# Altium footprint library PcbLib1.PcbLib: 19 footprints (part 1 of 2)
Each footprint in its own frame and in the unit in brackets; x right, y up, seen from the top. Pads: shape width x height; smd on the part's side, far side on the other; paste and mask are expansions set on the pad; w line width, h text height; cw(c..) or ccw(c..) is an arc to the next point about the centre after c.
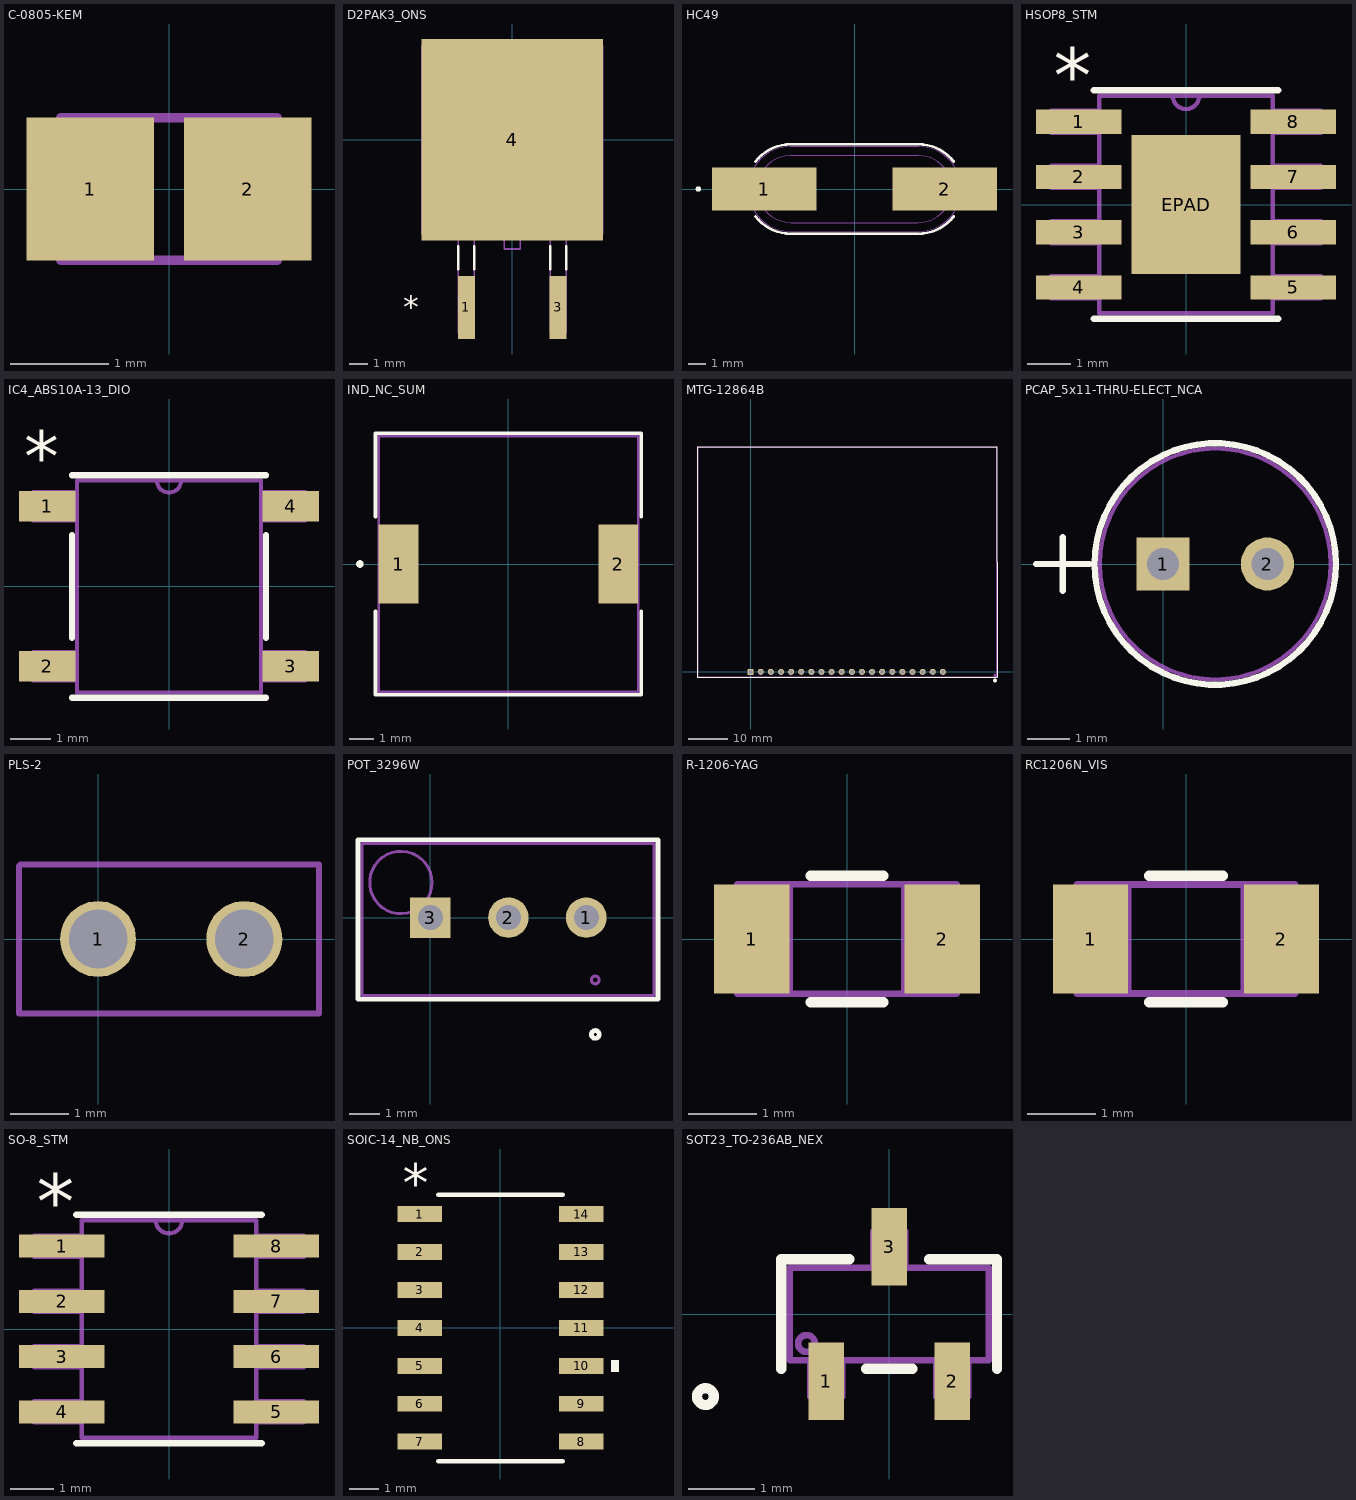
[diagram p0: the footprints below, top view; thin cyan lines are the x and y axes]

## C-0805-KEM [mm]
pads (2):
  rect 1.3x1.45 smd paste+0 mask+0: 1(-0.8,0) 2(0.8,0)
Top Assembly:
  lines w0.1: -1.1,-0.725 1.1,-0.725 ; -1.1,-0.725 -1.1,0.725 ; -1.1,-0.725 -1.1,0.725 ; -1.1,-0.725 -0.35,-0.725 -0.35,0.725 -1.1,0.725 ; -1.1,0.725 1.1,0.725 ; 1.1,-0.725 1.1,0.725 ; 1.1,-0.725 1.1,0.725 ; 1.1,-0.725 0.35,-0.725 0.35,0.725 1.1,0.725
3D body "CAPC220145_88N_KEM.step": height 0.88, standoff 0, extent -1.1,-0.725 1.1,0.725

## D2PAK3_ONS [mil]
pads (3):
  rect 36.97x137.56 smd paste+0 mask+0: 1(-100,-365) 3(100,-365)
  rect 395x438 smd paste+0 mask+0: 4(0,0)
Top Overlay:
  lines w6: -117.5,-282.22 -117.5,-232.1 ; -82.5,-282.22 -82.5,-232.1 ; 82.5,-282.22 82.5,-232.1 ; 117.5,-282.22 117.5,-232.1
  text "*" at -237.5,-390 h50
Top Assembly:
  lines w3.94: -17.5,-205 -17.5,-238 17.5,-238 17.5,-205 ; -196.5,-205 -196.5,205 196.5,205 196.5,-205 -196.5,-205 ; -117.5,-420 -82.5,-420 -82.5,-205 -117.5,-205 -117.5,-420 ; 82.5,-420 117.5,-420 117.5,-205 82.5,-205 82.5,-420
  text "*" at -112.5,-220 h50
3D body "D2PAK3_ONS.step": height 190.12, standoff -2.01, extent -197.99,-310 195,216.1

## HC49 [mm]
pads (2):
  rect 5.9x2.4 smd paste+0 mask+0: 1(-5.088,0) 2(5.088,0)
Top Overlay:
  circle w0.152: c-8.814,0 r0.076
  lines w0.152: -5.591,-1.549 ccw(c-3.594,0) -3.594,-2.527 ; -5.591,1.549 cw(c-3.594,0) -3.594,2.527 ; -3.721,-2.527 3.721,-2.527 ; -3.721,2.527 3.721,2.527 ; 3.594,-2.527 ccw(c3.594,0) 5.591,-1.549 ; 3.594,2.527 cw(c3.594,0) 5.591,1.549
Top Assembly:
  circle w0: c-7.417,0 r0.076
  lines w0: -3.594,-2.4 cw(c-3.594,0) -3.594,2.4 ; -3.594,-1.892 cw(c-3.594,0) -3.594,1.892 ; 3.594,-2.4 ccw(c3.594,0) 3.594,2.4 ; 3.594,-1.892 ccw(c3.594,0) 3.594,1.892
  lines w0.025: -3.594,-2.4 3.594,-2.4 ; -3.594,-1.892 3.594,-1.892 ; -3.594,1.892 3.594,1.892 ; -3.594,2.4 3.594,2.4
3D body "H32_RAM.step": height 3.25, standoff 0, extent -7.544,-2.4 7.544,2.4

## HSOP8_STM [mil]
pads (9):
  rect 77.56x21.97 smd paste+0 mask+0: 1(-97,75) 2(-97,25) 3(-97,-25) 4(-97,-75) 5(97,-75) 6(97,-25) 7(97,25) 8(97,75)
  rect 99x126 smd paste-62.5 mask+0: EPAD(0,0)
Top Overlay:
  lines w6: -83.5,-103.5 83.5,-103.5 ; -83.5,103.5 83.5,103.5
  text "*" at -119.5,91.97 h50
Top Paste:
  region: 45.56,-3.94 -45.56,-3.94 -45.56,-59.06 45.56,-59.06
  region: 45.56,59.06 -45.56,59.06 -45.56,3.94 45.56,3.94
Top Assembly:
  lines w3.94: -12,98.5 ccw(c0,98.5) 12,98.5 ; -122,-85 -78.5,-85 -78.5,-65 -122,-65 -122,-85 ; -122,-35 -78.5,-35 -78.5,-15 -122,-15 -122,-35 ; -122,15 -78.5,15 -78.5,35 -122,35 -122,15 ; -122,65 -78.5,65 -78.5,85 -122,85 -122,65 ; -78.5,-98.5 78.5,-98.5 78.5,98.5 -78.5,98.5 -78.5,-98.5 ; 78.5,-85 78.5,-65 122,-65 122,-85 78.5,-85 ; 78.5,-35 122,-35 122,-15 78.5,-15 78.5,-35 ; 78.5,15 122,15 122,35 78.5,35 78.5,15 ; 78.5,65 78.5,85 122,85 122,65 78.5,65
  text "*" at -76,45.5 h50
3D body "HSOP8_STM.step": height 67.09, standoff 0, extent -122,-98.5 122.01,98.51

## IC4_ABS10A-13_DIO [mm]
pads (4):
  rect 1.411x0.761 smd paste+0 mask+0: 1(-3.044,2) 2(-3.044,-2) 3(3.044,-2) 4(3.044,2)
Top Overlay:
  lines w0.152: -2.426,-2.781 2.426,-2.781 ; -2.426,-1.287 -2.426,1.287 ; -2.426,2.781 2.426,2.781 ; 2.426,-1.287 2.426,1.287
  text "*" at -3.616,2.634 h1.27
Top Assembly:
  lines w0.1: -0.305,2.654 ccw(c0,2.654) 0.305,2.654 ; -3.4,-2.356 -3.4,-1.644 -2.299,-1.644 -2.299,-2.356 -3.4,-2.356 ; -3.4,1.644 -3.4,2.356 -2.299,2.356 -2.299,1.644 -3.4,1.644 ; -2.299,-2.654 2.299,-2.654 2.299,2.654 -2.299,2.654 -2.299,-2.654 ; 2.299,-2.356 2.299,-1.644 3.4,-1.644 3.4,-2.356 2.299,-2.356 ; 2.299,1.644 2.299,2.356 3.4,2.356 3.4,1.644 2.299,1.644
  text "*" at -2.235,1.308 h1.27
3D body "IC4_ABS10A-13_DIO.step": height 1.7, standoff 0, extent -3.4,-2.654 3.4,2.654

## IND_NC_SUM [mil]
pads (2):
  rect 63x126 smd paste+0 mask+0: 1(-175,0) 2(175,0)
Top Overlay:
  circle w6: c-236.5,0 r3
  lines w6: -211.5,-75.11 -211.5,-208 211.5,-208 211.5,-75.11 ; -211.5,75.11 -211.5,208 211.5,208 211.5,75.11
Top Assembly:
  circle w3.94: c-203.5,0 r3
  lines w3.94: -206.5,-203 -206.5,203 206.5,203 206.5,-203 -206.5,-203
3D body "IND_NC_SUM.step": height 157.01, standoff 0, extent -206.49,-203.11 206.5,203.11

## MTG-12864B [mil]
pads (20):
  rect 60x60 hole 38 mask+0: 1(0,0)
  round 60 hole 40 mask+0: 2(100,0) 3(200,0) 4(300,0) 5(400,0) 6(500,0) 7(600,0) 8(700,0) 9(800,0) 10(900,0) 11(1000,0) 12(1100,0) 13(1200,0) 14(1300,0) 15(1400,0) 16(1500,0) 17(1600,0) 18(1700,0) 19(1800,0) 20(1900,0)
Top Overlay:
  circle w20: c2415,-85 r10
  lines w6: -530.26,2227.55 2434.74,2227.55 ; -530,2225 -530,-55 2435,-55 2435,2225
Top Assembly:
  circle w3.94: c2415,-35 r10
  lines w3.94: -525.26,2222.55 2429.74,2222.55 ; -525,2225 -525,-50 2430,-50 2430,2225
3D body: height 31.5, standoff 0, extent -530,-55 2435,2230
3D body: height 177.17, standoff 0, extent -155,315 2055,1735
3D body: height 216.54, standoff 0, extent 2055,315 2295,1735
3D body: height 216.54, standoff 0, extent -395,1735 2295,1975
3D body: height 216.54, standoff 0, extent -395,315 -155,1735
3D body: height 216.54, standoff 0, extent -395,105 2295,315

## PCAP_5x11-THRU-ELECT_NCA [mil]
pads (2):
  rect 50x50 hole 30 mask+0: 1(0,0)
  round 50 hole 30 mask+0: 2(98,0)
Top Overlay:
  circle w6: c49,0 r113.5
  lines w6: -119.5,0 -69.5,0 ; -94.5,-25 -94.5,25
Top Assembly:
  circle w3.94: c49,0 r108.5
  lines w3.94: -119.5,0 -69.5,0 ; -94.5,-25 -94.5,25
3D body "PCAP_5x11-THRU-ELECT_NCA.step": height 482.6, standoff -184.02, extent -59.48,-108.5 158.68,108.5

## PCBComponent_1 [mil]

## PLS-2 [mm]
pads (2):
  round 1.3 hole 1: 1(0,0) 2(2.5,0)
Top Assembly:
  lines w0.1: -1.35,-1.275 3.775,-1.275 3.775,1.275 -1.325,1.275 -1.35,1.25 -1.35,-1.275
3D body "pls-2.stp": height 8.47, standoff -3.07, extent -1.31,-1.27 3.77,1.27

## POT_3296W [mil]
pads (3):
  round 52 hole 32 mask+0: 1(200,0) 2(100,0)
  rect 52x52 hole 32 mask+0: 3(0,0)
Top Overlay:
  circle w6: c211.5,-150 r5
  lines w6: -93,-105 -93,100 292,100 292,-105 -93,-105
Top Assembly:
  circle w3.94: c-38,45 r40
  circle w3.94: c211.5,-80 r5
  lines w3.94: -88,-100 287,-100 287,95 -88,95 -88,-100
3D body "POT_3296W.step": height 377.99, standoff -250, extent -77,-100 298,95

## R-1206-YAG [mil]
pads (2):
  rect 43.31x63 smd paste+0 mask+0: 1(-54.89,0) 2(54.89,0)
Top Overlay:
  lines w6: -20.89,-36.5 20.89,-36.5 ; -20.89,36.5 20.89,36.5
Top Assembly:
  lines w3.94: -63,-31.5 -33,-31.5 -33,31.5 -63,31.5 ; -63,-31.5 -63,31.5 ; -63,-31.5 -63,31.5 ; -63,-31.5 63,-31.5 ; -63,31.5 63,31.5 ; 63,-31.5 33,-31.5 33,31.5 63,31.5 ; 63,-31.5 63,31.5 ; 63,-31.5 63,31.5
3D body "RC1206N_YAG.step": height 27.99, standoff 0, extent -62.99,-31.49 63,31.5

## RC1206N_VIS [mm]
pads (2):
  rect 1.1x1.6 smd paste+0 mask+0: 1(-1.4,0) 2(1.4,0)
Top Overlay:
  lines w0.152: -0.542,-0.927 0.542,-0.927 ; -0.542,0.927 0.542,0.927
Top Assembly:
  lines w0.1: -1.6,-0.8 1.6,-0.8 ; -1.6,-0.8 -1.6,0.8 ; -1.6,-0.8 -1.6,0.8 ; -1.6,-0.8 -0.85,-0.8 -0.85,0.8 -1.6,0.8 ; -1.6,0.8 1.6,0.8 ; 1.6,-0.8 1.6,0.8 ; 1.6,-0.8 1.6,0.8 ; 1.6,-0.8 0.85,-0.8 0.85,0.8 1.6,0.8
3D body "RC1206N_VIS.step": height 0.71, standoff 0, extent -1.6,-0.8 1.6,0.8

## SO-8_STM [mil]
pads (8):
  rect 77.56x20.97 smd paste+0 mask+0: 1(-97,75) 2(-97,25) 3(-97,-25) 4(-97,-75) 5(97,-75) 6(97,-25) 7(97,25) 8(97,75)
Top Overlay:
  lines w6: -84,-103.5 84,-103.5 ; -84,103.5 84,103.5
  text "*" at -119.5,90.97 h50
Top Assembly:
  lines w3.94: -12,98.5 ccw(c0,98.5) 12,98.5 ; -122,-84.5 -122,-65.5 -79,-65.5 -79,-84.5 -122,-84.5 ; -122,-34.5 -122,-15.5 -79,-15.5 -79,-34.5 -122,-34.5 ; -122,15.5 -122,34.5 -79,34.5 -79,15.5 -122,15.5 ; -122,65.5 -122,84.5 -79,84.5 -79,65.5 -122,65.5 ; -79,-98.5 -79,98.5 79,98.5 79,-98.5 -79,-98.5 ; 79,-84.5 79,-65.5 122,-65.5 122,-84.5 79,-84.5 ; 79,-34.5 79,-15.5 122,-15.5 122,-34.5 79,-34.5 ; 79,15.5 79,34.5 122,34.5 122,15.5 79,15.5 ; 79,65.5 79,84.5 122,84.5 122,65.5 79,65.5
  text "*" at -76.5,45.5 h50
3D body "SO-8_STM.step": height 69.09, standoff 0, extent -122,-98.5 122.01,98.51

## SOIC-14_NB_ONS [mil]
pads (14):
  rect 58.78x20.97 smd paste+0 mask+0: 1(-106.39,150) 2(-106.39,100) 3(-106.39,50) 4(-106.39,0) 5(-106.39,-50) 6(-106.39,-100) 7(-106.39,-150) 8(106.39,-150) 9(106.39,-100) 10(106.39,-50) 11(106.39,0) 12(106.39,50) 13(106.39,100) 14(106.39,150)
Top Overlay:
  region: 145.78,-42.5 155.78,-42.5 155.78,-57.5 145.78,-57.5
  lines w6: -82,-175.5 82,-175.5 ; -82,175.5 82,175.5
  text "*" at -128.89,165.97 h50
Top Solder:
  lines w3.94: -12,170.5 ccw(c0,170.5) 12,170.5 ; -122,-159.5 -77,-159.5 -77,-140.5 -122,-140.5 -122,-159.5 ; -122,-109.5 -77,-109.5 -77,-90.5 -122,-90.5 -122,-109.5 ; -122,-59.5 -77,-59.5 -77,-40.5 -122,-40.5 -122,-59.5 ; -122,-9.5 -77,-9.5 -77,9.5 -122,9.5 -122,-9.5 ; -122,40.5 -77,40.5 -77,59.5 -122,59.5 -122,40.5 ; -122,90.5 -77,90.5 -77,109.5 -122,109.5 -122,90.5 ; -122,140.5 -77,140.5 -77,159.5 -122,159.5 -122,140.5 ; -77,-170.5 77,-170.5 77,170.5 -77,170.5 -77,-170.5 ; 77,-159.5 122,-159.5 122,-140.5 77,-140.5 77,-159.5 ; 77,-109.5 122,-109.5 122,-90.5 77,-90.5 77,-109.5 ; 77,-59.5 122,-59.5 122,-40.5 77,-40.5 77,-59.5 ; 77,-9.5 122,-9.5 122,9.5 77,9.5 77,-9.5 ; 77,40.5 122,40.5 122,59.5 77,59.5 77,40.5 ; 77,90.5 122,90.5 122,109.5 77,109.5 77,90.5 ; 77,140.5 122,140.5 122,159.5 77,159.5 77,140.5
  text "*" at -74.5,117.5 h50
3D body "SOIC-14_NB_ONS.step": height 69.09, standoff 0, extent -122,-170.51 122.01,170.52

## SOT23_TO-236AB_NEX [mil]
pads (3):
  rect 21x46 smd paste+0 mask+0: 1(-37.4,-40) 2(37.4,-40) 3(0,40)
Top Overlay:
  circle w6: c-109,-49 r5
  lines w6: -64,-32.5 -64,32.5 -23.6,32.5 ; -13.8,-32.5 13.8,-32.5 ; 23.6,32.5 64,32.5 64,-32.5
Top Assembly:
  circle w3.94: c-49,-17.5 r5
  lines w3.94: -59,-27.5 -59,27.5 59,27.5 59,-27.5 -59,-27.5 ; -46.9,-49 -46.9,-27.5 -27.9,-27.5 -27.9,-49 -46.9,-49 ; -9.5,27.5 -9.5,49 9.5,49 9.5,27.5 -9.5,27.5 ; 27.9,-49 27.9,-27.5 46.9,-27.5 46.9,-49 27.9,-49
3D body "SOT23_TO-236AB_NEX.step": height 43.11, standoff 0, extent -59.01,-49.01 59.02,49.02